# Altium integrated library WE-LQS_rev15b.intlib: 147 symbols (part 1 of 2)
Pins are listed as number, name and electrical type; pins without a type are passive.

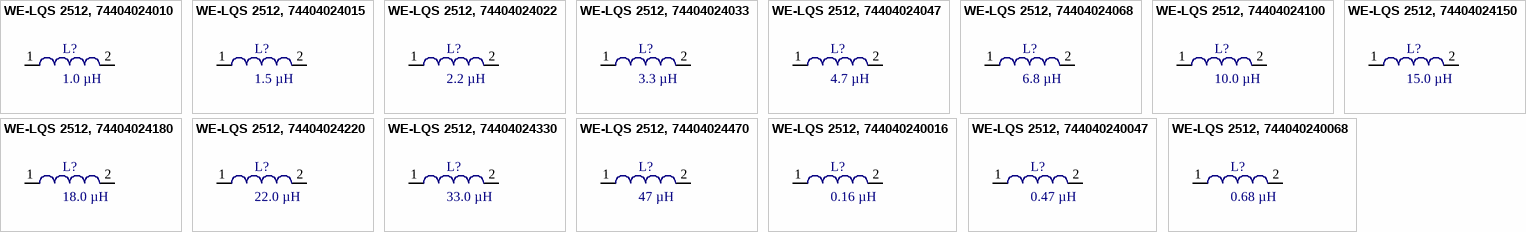
[diagram p0: symbols WE-LQS 2512, 74404024010 to WE-LQS 2512, 744040240068]

## WE-LQS 2512, 74404024010
designator L?, comment 1.0 µH
WE-LQS SMD Power Inductor, L=1.0 µH; partNo: 74404024010; Manufacturer: Wurth Elektronik; Inductance: 1.0 µH; ComponentLink1Description: Manufacturer; ComponentLink1URL: http://www.we-online.de; Created by: Karrer Zheng; Created Date: May 2014; ComponentLink2Description: Datasheet; ComponentLink2URL: http://katalog.we-online.de/pbs/datasheet/74404024010.pdf
footprint WE-LQS 2512 (SMD Power Inductor, 2-Leads, Body 2.5x2.0mm)
pins: 1, 2

## WE-LQS 2512, 74404024015
designator L?, comment 1.5 µH
WE-LQS SMD Power Inductor, L=1.5 µH; partNo: 74404024015; Manufacturer: Wurth Elektronik; Inductance: 1.5 µH; ComponentLink1Description: Manufacturer; ComponentLink1URL: http://www.we-online.de; Created by: Karrer Zheng; Created Date: May 2014; ComponentLink2Description: Datasheet; ComponentLink2URL: http://katalog.we-online.de/pbs/datasheet/74404024015.pdf
footprint WE-LQS 2512 (SMD Power Inductor, 2-Leads, Body 2.5x2.0mm)
pins: 1, 2

## WE-LQS 2512, 74404024022
designator L?, comment 2.2 µH
WE-LQS SMD Power Inductor, L=2.2 µH; partNo: 744040240022; Manufacturer: Wurth Elektronik; Inductance: 2.2 µH; ComponentLink1Description: Manufacturer; ComponentLink1URL: http://www.we-online.de; Created by: Karrer Zheng; Created Date: May 2014; ComponentLink2Description: Datasheet; ComponentLink2URL: http://katalog.we-online.de/pbs/datasheet/74404024022.pdf
footprint WE-LQS 2512 (SMD Power Inductor, 2-Leads, Body 2.5x2.0mm)
pins: 1, 2

## WE-LQS 2512, 74404024033
designator L?, comment 3.3 µH
WE-LQS SMD Power Inductor, L=3.3 µH; partNo: 74404024033; Manufacturer: Wurth Elektronik; Inductance: 3.3 µH; ComponentLink1Description: Manufacturer; ComponentLink1URL: http://www.we-online.de; Created by: Karrer Zheng; Created Date: May 2014; ComponentLink2Description: Datasheet; ComponentLink2URL: http://katalog.we-online.de/pbs/datasheet/74404024033.pdf
footprint WE-LQS 2512 (SMD Power Inductor, 2-Leads, Body 2.5x2.0mm)
pins: 1, 2

## WE-LQS 2512, 74404024047
designator L?, comment 4.7 µH
WE-LQS SMD Power Inductor, L=4.7 µH; partNo: 74404024047; Manufacturer: Wurth Elektronik; Inductance: 4.7 µH; ComponentLink1Description: Manufacturer; ComponentLink1URL: http://www.we-online.de; Created by: Karrer Zheng; Created Date: May 2014; ComponentLink2Description: Datasheet; ComponentLink2URL: http://katalog.we-online.de/pbs/datasheet/74404024047.pdf
footprint WE-LQS 2512 (SMD Power Inductor, 2-Leads, Body 2.5x2.0mm)
pins: 1, 2

## WE-LQS 2512, 74404024068
designator L?, comment 6.8 µH
WE-LQS SMD Power Inductor, L=6.8 µH; partNo: 74404024068; Manufacturer: Wurth Elektronik; Inductance: 6.8 µH; ComponentLink1Description: Manufacturer; ComponentLink1URL: http://www.we-online.de; Created by: Karrer Zheng; Created Date: May 2014; ComponentLink2Description: Datasheet; ComponentLink2URL: http://katalog.we-online.de/pbs/datasheet/74404024068.pdf
footprint WE-LQS 2512 (SMD Power Inductor, 2-Leads, Body 2.5x2.0mm)
pins: 1, 2

## WE-LQS 2512, 74404024100
designator L?, comment 10.0 µH
WE-LQS SMD Power Inductor, L=10.0 µH; partNo: 74404024100; Manufacturer: Wurth Elektronik; Inductance: 10.0 µH; ComponentLink1Description: Manufacturer; ComponentLink1URL: http://www.we-online.de; Created by: Karrer Zheng; Created Date: May 2014; ComponentLink2Description: Datasheet; ComponentLink2URL: http://katalog.we-online.de/pbs/datasheet/74404024100.pdf
footprint WE-LQS 2512 (SMD Power Inductor, 2-Leads, Body 2.5x2.0mm)
pins: 1, 2

## WE-LQS 2512, 74404024150
designator L?, comment 15.0 µH
WE-LQS SMD Power Inductor, L=15.0 µH; partNo: 74404024150; Manufacturer: Wurth Elektronik; Inductance: 15.0 µH; ComponentLink1Description: Manufacturer; ComponentLink1URL: http://www.we-online.de; Created by: Karrer Zheng; Created Date: May 2014; ComponentLink2Description: Datasheet; ComponentLink2URL: http://katalog.we-online.de/pbs/datasheet/74404024150.pdf
footprint WE-LQS 2512 (SMD Power Inductor, 2-Leads, Body 2.5x2.0mm)
pins: 1, 2

## WE-LQS 2512, 74404024180
designator L?, comment 18.0 µH
WE-LQS SMD Power Inductor, L=18.0 µH; partNo: 74404024180; Manufacturer: Wurth Elektronik; Inductance: 18.0 µH; ComponentLink1Description: Manufacturer; ComponentLink1URL: http://www.we-online.de; Created by: Karrer Zheng; Created Date: May 2014; ComponentLink2Description: Datasheet; ComponentLink2URL: http://katalog.we-online.de/pbs/datasheet/74404024180.pdf
footprint WE-LQS 2512 (SMD Power Inductor, 2-Leads, Body 2.5x2.0mm)
pins: 1, 2

## WE-LQS 2512, 74404024220
designator L?, comment 22.0 µH
WE-LQS SMD Power Inductor, L=22.0 µH; partNo: 74404024220; Manufacturer: Wurth Elektronik; Inductance: 22.0 µH; ComponentLink1Description: Manufacturer; ComponentLink1URL: http://www.we-online.de; Created by: Karrer Zheng; Created Date: May 2014; ComponentLink2Description: Datasheet; ComponentLink2URL: http://katalog.we-online.de/pbs/datasheet/74404024220.pdf
footprint WE-LQS 2512 (SMD Power Inductor, 2-Leads, Body 2.5x2.0mm)
pins: 1, 2

## WE-LQS 2512, 74404024330
designator L?, comment 33.0 µH
WE-LQS SMD Power Inductor, L=33.0 µH; partNo: 74404024330; Manufacturer: Wurth Elektronik; Inductance: 33.0 µH; ComponentLink1Description: Manufacturer; ComponentLink1URL: http://www.we-online.de; Created by: Karrer Zheng; Created Date: May 2014; ComponentLink2Description: Datasheet; ComponentLink2URL: http://katalog.we-online.de/pbs/datasheet/74404024330.pdf
footprint WE-LQS 2512 (SMD Power Inductor, 2-Leads, Body 2.5x2.0mm)
pins: 1, 2

## WE-LQS 2512, 74404024470
designator L?, comment 47 µH
WE-LQS SMD Power Inductor, L=47 µH; partNo: 74404024470; Manufacturer: Wurth Elektronik; Inductance: 47 µH; ComponentLink1Description: Manufacturer; ComponentLink1URL: http://www.we-online.de; Created by: Baojun Chen; Created Date: Aug. 2015; ComponentLink2Description: Datasheet; ComponentLink2URL: http://katalog.we-online.de/pbs/datasheet/74404024470.pdf
footprint WE-LQS 2512 (SMD Power Inductor, 2-Leads, Body 2.5x2.0mm)
pins: 1, 2

## WE-LQS 2512, 744040240016
designator L?, comment 0.16 µH
WE-LQS SMD Power Inductor, L=0.16 µH; partNo: 744040240016; Manufacturer: Wurth Elektronik; Inductance: 0.16 µH; ComponentLink1Description: Manufacturer; ComponentLink1URL: http://www.we-online.de; Created by: Baojun Chen; Created Date: Aug. 2015; ComponentLink2Description: Datasheet; ComponentLink2URL: http://katalog.we-online.de/pbs/datasheet/744040240016.pdf
footprint WE-LQS 2512 (SMD Power Inductor, 2-Leads, Body 2.5x2.0mm)
pins: 1, 2

## WE-LQS 2512, 744040240047
designator L?, comment 0.47 µH
WE-LQS SMD Power Inductor, L=0.47 µH; partNo: 744040240047; Manufacturer: Wurth Elektronik; Inductance: 0.47 µH; ComponentLink1Description: Manufacturer; ComponentLink1URL: http://www.we-online.de; Created by: Karrer Zheng; Created Date: May 2014; ComponentLink2Description: Datasheet; ComponentLink2URL: http://katalog.we-online.de/pbs/datasheet/744040240047.pdf
footprint WE-LQS 2512 (SMD Power Inductor, 2-Leads, Body 2.5x2.0mm)
pins: 1, 2

## WE-LQS 2512, 744040240068
designator L?, comment 0.68 µH
WE-LQS SMD Power Inductor, L=0.68 µH; partNo: 744040240068; Manufacturer: Wurth Elektronik; Inductance: 0.68 µH; ComponentLink1Description: Manufacturer; ComponentLink1URL: http://www.we-online.de; Created by: Karrer Zheng; Created Date: May 2014; ComponentLink2Description: Datasheet; ComponentLink2URL: http://katalog.we-online.de/pbs/datasheet/744040240068.pdf
footprint WE-LQS 2512 (SMD Power Inductor, 2-Leads, Body 2.5x2.0mm)
pins: 1, 2


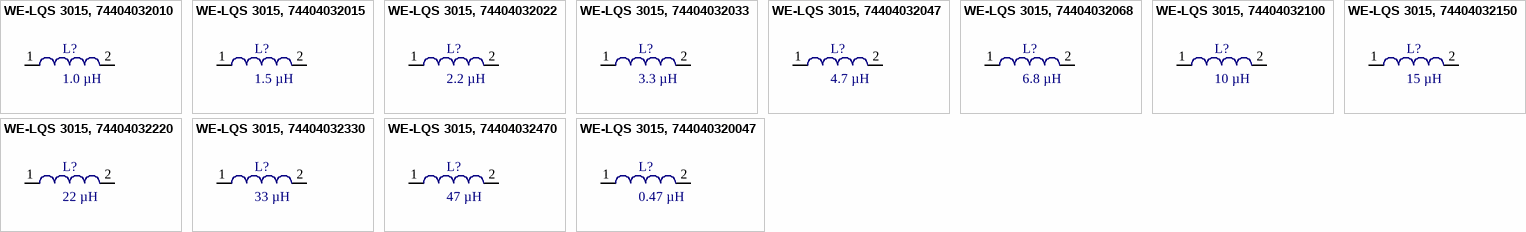
[diagram p1: symbols WE-LQS 3015, 74404032010 to WE-LQS 3015, 744040320047]

## WE-LQS 3015, 74404032010
designator L?, comment 1.0 µH
WE-LQS SMD Power Inductor, L=1.0 µH; partNo: 74404032010; Manufacturer: Wurth Elektronik; Inductance: 1.0 µH; ComponentLink1Description: Manufacturer; ComponentLink1URL: http://www.we-online.de; Created by: Karrer Zheng; Created Date: May 2014; ComponentLink2Description: Datasheet; ComponentLink2URL: http://katalog.we-online.de/pbs/datasheet/74404032010.pdf
footprint WE-LQS 3015 (SMD Power Inductor, 2-Leads, Body 3.0x3.0mm)
pins: 1, 2

## WE-LQS 3015, 74404032015
designator L?, comment 1.5 µH
WE-LQS SMD Power Inductor, L=1.5 µH; partNo: 74404032015; Manufacturer: Wurth Elektronik; Inductance: 1.5 µH; ComponentLink1Description: Manufacturer; ComponentLink1URL: http://www.we-online.de; Created by: Karrer Zheng; Created Date: May 2014; ComponentLink2Description: Datasheet; ComponentLink2URL: http://katalog.we-online.de/pbs/datasheet/74404032015.pdf
footprint WE-LQS 3015 (SMD Power Inductor, 2-Leads, Body 3.0x3.0mm)
pins: 1, 2

## WE-LQS 3015, 74404032022
designator L?, comment 2.2 µH
WE-LQS SMD Power Inductor, L=2.2 µH; partNo: 74404032022; Manufacturer: Wurth Elektronik; Inductance: 2.2 µH; ComponentLink1Description: Manufacturer; ComponentLink1URL: http://www.we-online.de; Created by: Karrer Zheng; Created Date: May 2014; ComponentLink2Description: Datasheet; ComponentLink2URL: http://katalog.we-online.de/pbs/datasheet/74404032022.pdf
footprint WE-LQS 3015 (SMD Power Inductor, 2-Leads, Body 3.0x3.0mm)
pins: 1, 2

## WE-LQS 3015, 74404032033
designator L?, comment 3.3 µH
WE-LQS SMD Power Inductor, L=3.3 µH; partNo: 74404032033; Manufacturer: Wurth Elektronik; Inductance: 3.3 µH; ComponentLink1Description: Manufacturer; ComponentLink1URL: http://www.we-online.de; Created by: Karrer Zheng; Created Date: May 2014; ComponentLink2Description: Datasheet; ComponentLink2URL: http://katalog.we-online.de/pbs/datasheet/74404032033.pdf
footprint WE-LQS 3015 (SMD Power Inductor, 2-Leads, Body 3.0x3.0mm)
pins: 1, 2

## WE-LQS 3015, 74404032047
designator L?, comment 4.7 µH
WE-LQS SMD Power Inductor, L=4.7 µH; partNo: 74404032047; Manufacturer: Wurth Elektronik; Inductance: 4.7 µH; ComponentLink1Description: Manufacturer; ComponentLink1URL: http://www.we-online.de; Created by: Karrer Zheng; Created Date: May 2014; ComponentLink2Description: Datasheet; ComponentLink2URL: http://katalog.we-online.de/pbs/datasheet/74404032047.pdf
footprint WE-LQS 3015 (SMD Power Inductor, 2-Leads, Body 3.0x3.0mm)
pins: 1, 2

## WE-LQS 3015, 74404032068
designator L?, comment 6.8 µH
WE-LQS SMD Power Inductor, L=6.8 µH; partNo: 74404032068; Manufacturer: Wurth Elektronik; Inductance: 6.8 µH; ComponentLink1Description: Manufacturer; ComponentLink1URL: http://www.we-online.de; Created by: Karrer Zheng; Created Date: May 2014; ComponentLink2Description: Datasheet; ComponentLink2URL: http://katalog.we-online.de/pbs/datasheet/74404032068.pdf
footprint WE-LQS 3015 (SMD Power Inductor, 2-Leads, Body 3.0x3.0mm)
pins: 1, 2

## WE-LQS 3015, 74404032100
designator L?, comment 10 µH
WE-LQS SMD Power Inductor, L=10 µH; partNo: 74404032100; Manufacturer: Wurth Elektronik; Inductance: 10 µH; ComponentLink1Description: Manufacturer; ComponentLink1URL: http://www.we-online.de; Created by: Karrer Zheng; Created Date: May 2014; ComponentLink2Description: Datasheet; ComponentLink2URL: http://katalog.we-online.de/pbs/datasheet/74404032100.pdf
footprint WE-LQS 3015 (SMD Power Inductor, 2-Leads, Body 3.0x3.0mm)
pins: 1, 2

## WE-LQS 3015, 74404032150
designator L?, comment 15 µH
WE-LQS SMD Power Inductor, L=15 µH; partNo: 74404032150; Manufacturer: Wurth Elektronik; Inductance: 15 µH; ComponentLink1Description: Manufacturer; ComponentLink1URL: http://www.we-online.de; Created by: Karrer Zheng; Created Date: May 2014; ComponentLink2Description: Datasheet; ComponentLink2URL: http://katalog.we-online.de/pbs/datasheet/74404032150.pdf
footprint WE-LQS 3015 (SMD Power Inductor, 2-Leads, Body 3.0x3.0mm)
pins: 1, 2

## WE-LQS 3015, 74404032220
designator L?, comment 22 µH
WE-LQS SMD Power Inductor, L=22 µH; partNo: 74404032220; Manufacturer: Wurth Elektronik; Inductance: 22 µH; ComponentLink1Description: Manufacturer; ComponentLink1URL: http://www.we-online.de; Created by: Karrer Zheng; Created Date: May 2014; ComponentLink2Description: Datasheet; ComponentLink2URL: http://katalog.we-online.de/pbs/datasheet/74404032220.pdf
footprint WE-LQS 3015 (SMD Power Inductor, 2-Leads, Body 3.0x3.0mm)
pins: 1, 2

## WE-LQS 3015, 74404032330
designator L?, comment 33 µH
WE-LQS SMD Power Inductor, L=33 µH; partNo: 74404032330; Manufacturer: Wurth Elektronik; Inductance: 33 µH; ComponentLink1Description: Manufacturer; ComponentLink1URL: http://www.we-online.de; Created by: Karrer Zheng; Created Date: May 2014; ComponentLink2Description: Datasheet; ComponentLink2URL: http://katalog.we-online.de/pbs/datasheet/74404032330.pdf
footprint WE-LQS 3015 (SMD Power Inductor, 2-Leads, Body 3.0x3.0mm)
pins: 1, 2

## WE-LQS 3015, 74404032470
designator L?, comment 47 µH
WE-LQS SMD Power Inductor, L=47 µH; partNo: 74404032470; Manufacturer: Wurth Elektronik; Inductance: 47 µH; ComponentLink1Description: Manufacturer; ComponentLink1URL: http://www.we-online.de; Created by: Karrer Zheng; Created Date: May 2014; ComponentLink2Description: Datasheet; ComponentLink2URL: http://katalog.we-online.de/pbs/datasheet/74404032470.pdf
footprint WE-LQS 3015 (SMD Power Inductor, 2-Leads, Body 3.0x3.0mm)
pins: 1, 2

## WE-LQS 3015, 744040320047
designator L?, comment 0.47 µH
WE-LQS SMD Power Inductor, L=0.47; partNo: 744040320047; Manufacturer: Wurth Elektronik; Inductance: 0.47 µH; ComponentLink1Description: Manufacturer; ComponentLink1URL: http://www.we-online.de; Created by: Karrer Zheng; Created Date: May 2014; ComponentLink2Description: Datasheet; ComponentLink2URL: http://katalog.we-online.de/pbs/datasheet/744040320047.pdf
footprint WE-LQS 3015 (SMD Power Inductor, 2-Leads, Body 3.0x3.0mm)
pins: 1, 2


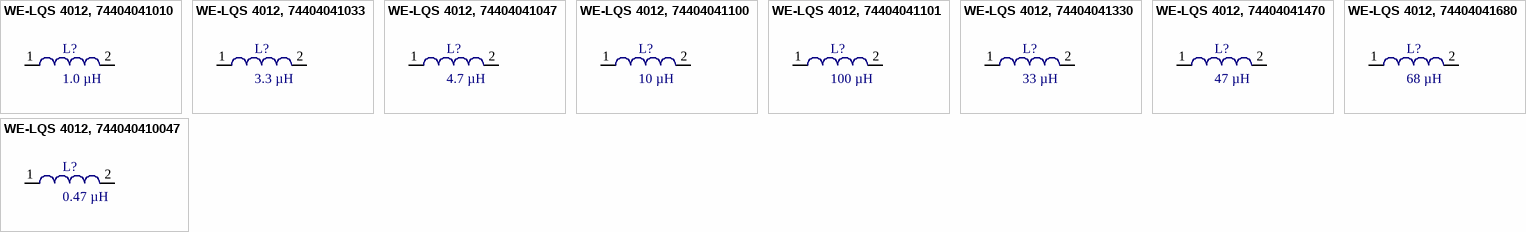
[diagram p2: symbols WE-LQS 4012, 74404041010 to WE-LQS 4012, 744040410047]

## WE-LQS 4012, 74404041010
designator L?, comment 1.0 µH
WE-LQS SMD Power Inductor, L=1.0 µH; partNo: 74404041010; Manufacturer: Wurth Elektronik; Inductance: 1.0 µH; ComponentLink1Description: Manufacturer; ComponentLink1URL: http://www.we-online.de; Created by: Baojun Chen; Created Date: Aug. 2015; ComponentLink2Description: Datasheet; ComponentLink2URL: http://katalog.we-online.de/pbs/datasheet/74404041010.pdf
footprint WE-LQS 4012 (SMD Power Inductor, 2-Leads, Body 4.0x4.0mm)
pins: 1, 2

## WE-LQS 4012, 74404041033
designator L?, comment 3.3 µH
WE-LQS SMD Power Inductor, L=3.3 µH; partNo: 74404041033; Manufacturer: Wurth Elektronik; Inductance: 3.3 µH; ComponentLink1Description: Manufacturer; ComponentLink1URL: http://www.we-online.de; Created by: Baojun Chen; Created Date: Aug. 2015; ComponentLink2Description: Datasheet; ComponentLink2URL: http://katalog.we-online.de/pbs/datasheet/74404041033.pdf
footprint WE-LQS 4012 (SMD Power Inductor, 2-Leads, Body 4.0x4.0mm)
pins: 1, 2

## WE-LQS 4012, 74404041047
designator L?, comment 4.7 µH
WE-LQS SMD Power Inductor, L=4.7 µH; partNo: 74404041047; Manufacturer: Wurth Elektronik; Inductance: 4.7 µH; ComponentLink1Description: Manufacturer; ComponentLink1URL: http://www.we-online.de; Created by: Baojun Chen; Created Date: Aug. 2015; ComponentLink2Description: Datasheet; ComponentLink2URL: http://katalog.we-online.de/pbs/datasheet/74404041047.pdf
footprint WE-LQS 4012 (SMD Power Inductor, 2-Leads, Body 4.0x4.0mm)
pins: 1, 2

## WE-LQS 4012, 74404041100
designator L?, comment 10 µH
WE-LQS SMD Power Inductor, L=10 µH; partNo: 74404041100; Manufacturer: Wurth Elektronik; Inductance: 10 µH; ComponentLink1Description: Manufacturer; ComponentLink1URL: http://www.we-online.de; Created by: Baojun Chen; Created Date: Aug. 2015; ComponentLink2Description: Datasheet; ComponentLink2URL: http://katalog.we-online.de/pbs/datasheet/74404041100.pdf
footprint WE-LQS 4012 (SMD Power Inductor, 2-Leads, Body 4.0x4.0mm)
pins: 1, 2

## WE-LQS 4012, 74404041101
designator L?, comment 100 µH
WE-LQS SMD Power Inductor, L=100 µH; partNo: 74404041101; Manufacturer: Wurth Elektronik; Inductance: 100 µH; ComponentLink1Description: Manufacturer; ComponentLink1URL: http://www.we-online.de; Created by: Baojun Chen; Created Date: Aug. 2015; ComponentLink2Description: Datasheet; ComponentLink2URL: http://katalog.we-online.de/pbs/datasheet/74404041101.pdf
footprint WE-LQS 4012 (SMD Power Inductor, 2-Leads, Body 4.0x4.0mm)
pins: 1, 2

## WE-LQS 4012, 74404041330
designator L?, comment 33 µH
WE-LQS SMD Power Inductor, L=33 µH; partNo: 74404041330; Manufacturer: Wurth Elektronik; Inductance: 33 µH; ComponentLink1Description: Manufacturer; ComponentLink1URL: http://www.we-online.de; Created by: Baojun Chen; Created Date: Aug. 2015; ComponentLink2Description: Datasheet; ComponentLink2URL: http://katalog.we-online.de/pbs/datasheet/74404041330.pdf
footprint WE-LQS 4012 (SMD Power Inductor, 2-Leads, Body 4.0x4.0mm)
pins: 1, 2

## WE-LQS 4012, 74404041470
designator L?, comment 47 µH
WE-LQS SMD Power Inductor, L=47 µH; partNo: 74404041470; Manufacturer: Wurth Elektronik; Inductance: 47 µH; ComponentLink1Description: Manufacturer; ComponentLink1URL: http://www.we-online.de; Created by: Baojun Chen; Created Date: Aug. 2015; ComponentLink2Description: Datasheet; ComponentLink2URL: http://katalog.we-online.de/pbs/datasheet/74404041470.pdf
footprint WE-LQS 4012 (SMD Power Inductor, 2-Leads, Body 4.0x4.0mm)
pins: 1, 2

## WE-LQS 4012, 74404041680
designator L?, comment 68 µH
WE-LQS SMD Power Inductor, L=68 µH; partNo: 74404041680; Manufacturer: Wurth Elektronik; Inductance: 68 µH; ComponentLink1Description: Manufacturer; ComponentLink1URL: http://www.we-online.de; Created by: Baojun Chen; Created Date: Aug. 2015; ComponentLink2Description: Datasheet; ComponentLink2URL: http://katalog.we-online.de/pbs/datasheet/74404041680.pdf
footprint WE-LQS 4012 (SMD Power Inductor, 2-Leads, Body 4.0x4.0mm)
pins: 1, 2

## WE-LQS 4012, 744040410047
designator L?, comment 0.47 µH
WE-LQS SMD Power Inductor, L=0.47 µH; partNo: 744040410047; Manufacturer: Wurth Elektronik; Inductance: 0.47 µH; ComponentLink1Description: Manufacturer; ComponentLink1URL: http://www.we-online.de; Created by: Baojun Chen; Created Date: Aug. 2015; ComponentLink2Description: Datasheet; ComponentLink2URL: http://katalog.we-online.de/pbs/datasheet/744040410047.pdf
footprint WE-LQS 4012 (SMD Power Inductor, 2-Leads, Body 4.0x4.0mm)
pins: 1, 2


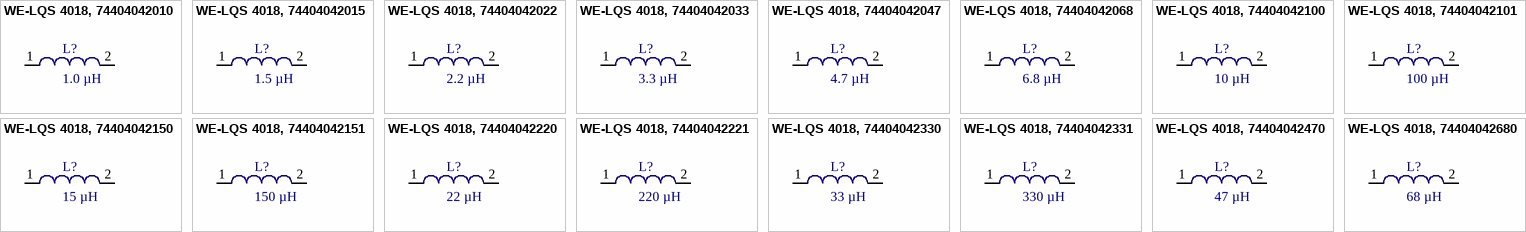
[diagram p3: symbols WE-LQS 4018, 74404042010 to WE-LQS 4018, 74404042680]

## WE-LQS 4018, 74404042010
designator L?, comment 1.0 µH
WE-LQS SMD Power Inductor, L=1.0 µH; partNo: 74404042010; Manufacturer: Wurth Elektronik; Inductance: 1.0 µH; ComponentLink1Description: Manufacturer; ComponentLink1URL: http://www.we-online.de; Created by: Karrer Zheng; Created Date: May 2014; ComponentLink2Description: Datasheet; ComponentLink2URL: http://katalog.we-online.de/pbs/datasheet/74404042010.pdf
footprint WE-LQS 4018 (SMD Power Inductor, 2-Leads, Body 4.0x4.0mm)
pins: 1, 2

## WE-LQS 4018, 74404042015
designator L?, comment 1.5 µH
WE-LQS SMD Power Inductor, L=1.5 µH; partNo: 74404042015; Manufacturer: Wurth Elektronik; Inductance: 1.5 µH; ComponentLink1Description: Manufacturer; ComponentLink1URL: http://www.we-online.de; Created by: Karrer Zheng; Created Date: May 2014; ComponentLink2Description: Datasheet; ComponentLink2URL: http://katalog.we-online.de/pbs/datasheet/74404042015.pdf
footprint WE-LQS 4018 (SMD Power Inductor, 2-Leads, Body 4.0x4.0mm)
pins: 1, 2

## WE-LQS 4018, 74404042022
designator L?, comment 2.2 µH
WE-LQS SMD Power Inductor, L=2.2 µH; partNo: 74404042022; Manufacturer: Wurth Elektronik; Inductance: 2.2 µH; ComponentLink1Description: Manufacturer; ComponentLink1URL: http://www.we-online.de; Created by: Karrer Zheng; Created Date: May 2014; ComponentLink2Description: Datasheet; ComponentLink2URL: http://katalog.we-online.de/pbs/datasheet/74404042022.pdf
footprint WE-LQS 4018 (SMD Power Inductor, 2-Leads, Body 4.0x4.0mm)
pins: 1, 2

## WE-LQS 4018, 74404042033
designator L?, comment 3.3 µH
WE-LQS SMD Power Inductor, L=3.3 µH; partNo: 74404042033; Manufacturer: Wurth Elektronik; Inductance: 3.3 µH; ComponentLink1Description: Manufacturer; ComponentLink1URL: http://www.we-online.de; Created by: Karrer Zheng; Created Date: May 2014; ComponentLink2Description: Datasheet; ComponentLink2URL: http://katalog.we-online.de/pbs/datasheet/74404042033.pdf
footprint WE-LQS 4018 (SMD Power Inductor, 2-Leads, Body 4.0x4.0mm)
pins: 1, 2

## WE-LQS 4018, 74404042047
designator L?, comment 4.7 µH
WE-LQS SMD Power Inductor, L=4.7 µH; partNo: 74404042047; Manufacturer: Wurth Elektronik; Inductance: 4.7 µH; ComponentLink1Description: Manufacturer; ComponentLink1URL: http://www.we-online.de; Created by: Karrer Zheng; Created Date: May 2014; ComponentLink2Description: Datasheet; ComponentLink2URL: http://katalog.we-online.de/pbs/datasheet/74404042047.pdf
footprint WE-LQS 4018 (SMD Power Inductor, 2-Leads, Body 4.0x4.0mm)
pins: 1, 2

## WE-LQS 4018, 74404042068
designator L?, comment 6.8 µH
WE-LQS SMD Power Inductor, L=6.8 µH; partNo: 74404042068; Manufacturer: Wurth Elektronik; Inductance: 6.8 µH; ComponentLink1Description: Manufacturer; ComponentLink1URL: http://www.we-online.de; Created by: Karrer Zheng; Created Date: May 2014; ComponentLink2Description: Datasheet; ComponentLink2URL: http://katalog.we-online.de/pbs/datasheet/74404042068.pdf
footprint WE-LQS 4018 (SMD Power Inductor, 2-Leads, Body 4.0x4.0mm)
pins: 1, 2

## WE-LQS 4018, 74404042100
designator L?, comment 10 µH
WE-LQS SMD Power Inductor, L=10 µH; partNo: 74404042100; Manufacturer: Wurth Elektronik; Inductance: 10 µH; ComponentLink1Description: Manufacturer; ComponentLink1URL: http://www.we-online.de; Created by: Karrer Zheng; Created Date: May 2014; ComponentLink2Description: Datasheet; ComponentLink2URL: http://katalog.we-online.de/pbs/datasheet/74404042100.pdf
footprint WE-LQS 4018 (SMD Power Inductor, 2-Leads, Body 4.0x4.0mm)
pins: 1, 2

## WE-LQS 4018, 74404042101
designator L?, comment 100 µH
WE-LQS SMD Power Inductor, L=100 µH; partNo: 74404042101; Manufacturer: Wurth Elektronik; Inductance: 100 µH; ComponentLink1Description: Manufacturer; ComponentLink1URL: http://www.we-online.de; Created by: Baojun Chen; Created Date: Aug. 2015; ComponentLink2Description: Datasheet; ComponentLink2URL: http://katalog.we-online.de/pbs/datasheet/74404042101.pdf
footprint WE-LQS 4018 (SMD Power Inductor, 2-Leads, Body 4.0x4.0mm)
pins: 1, 2

## WE-LQS 4018, 74404042150
designator L?, comment 15 µH
WE-LQS SMD Power Inductor, L=15 µH; partNo: 74404042150; Manufacturer: Wurth Elektronik; Inductance: 15 µH; ComponentLink1Description: Manufacturer; ComponentLink1URL: http://www.we-online.de; Created by: Karrer Zheng; Created Date: May 2014; ComponentLink2Description: Datasheet; ComponentLink2URL: http://katalog.we-online.de/pbs/datasheet/74404042150.pdf
footprint WE-LQS 4018 (SMD Power Inductor, 2-Leads, Body 4.0x4.0mm)
pins: 1, 2

## WE-LQS 4018, 74404042151
designator L?, comment 150 µH
WE-LQS SMD Power Inductor, L=150 µH; partNo: 74404042151; Manufacturer: Wurth Elektronik; Inductance: 150 µH; ComponentLink1Description: Manufacturer; ComponentLink1URL: http://www.we-online.de; Created by: Baojun Chen; Created Date: Aug. 2015; ComponentLink2Description: Datasheet; ComponentLink2URL: http://katalog.we-online.de/pbs/datasheet/74404042151.pdf
footprint WE-LQS 4018 (SMD Power Inductor, 2-Leads, Body 4.0x4.0mm)
pins: 1, 2

## WE-LQS 4018, 74404042220
designator L?, comment 22 µH
WE-LQS SMD Power Inductor, L=22 µH; partNo: 74404042220; Manufacturer: Wurth Elektronik; Inductance: 22 µH; ComponentLink1Description: Manufacturer; ComponentLink1URL: http://www.we-online.de; Created by: Karrer Zheng; Created Date: May 2014; ComponentLink2Description: Datasheet; ComponentLink2URL: http://katalog.we-online.de/pbs/datasheet/74404042220.pdf
footprint WE-LQS 4018 (SMD Power Inductor, 2-Leads, Body 4.0x4.0mm)
pins: 1, 2

## WE-LQS 4018, 74404042221
designator L?, comment 220 µH
WE-LQS SMD Power Inductor, L=220 µH; partNo: 74404042221; Manufacturer: Wurth Elektronik; Inductance: 220 µH; ComponentLink1Description: Manufacturer; ComponentLink1URL: http://www.we-online.de; Created by: Baojun Chen; Created Date: Aug. 2015; ComponentLink2Description: Datasheet; ComponentLink2URL: http://katalog.we-online.de/pbs/datasheet/74404042221.pdf
footprint WE-LQS 4018 (SMD Power Inductor, 2-Leads, Body 4.0x4.0mm)
pins: 1, 2

## WE-LQS 4018, 74404042330
designator L?, comment 33 µH
WE-LQS SMD Power Inductor, L=33 µH; partNo: 74404042330; Manufacturer: Wurth Elektronik; Inductance: 33 µH; ComponentLink1Description: Manufacturer; ComponentLink1URL: http://www.we-online.de; Created by: Karrer Zheng; Created Date: May 2014; ComponentLink2Description: Datasheet; ComponentLink2URL: http://katalog.we-online.de/pbs/datasheet/74404042330.pdf
footprint WE-LQS 4018 (SMD Power Inductor, 2-Leads, Body 4.0x4.0mm)
pins: 1, 2

## WE-LQS 4018, 74404042331
designator L?, comment 330 µH
WE-LQS SMD Power Inductor, L=330 µH; partNo: 74404042331; Manufacturer: Wurth Elektronik; Inductance: 330 µH; ComponentLink1Description: Manufacturer; ComponentLink1URL: http://www.we-online.de; Created by: Baojun Chen; Created Date: Aug. 2015; ComponentLink2Description: Datasheet; ComponentLink2URL: http://katalog.we-online.de/pbs/datasheet/74404042331.pdf
footprint WE-LQS 4018 (SMD Power Inductor, 2-Leads, Body 4.0x4.0mm)
pins: 1, 2

## WE-LQS 4018, 74404042470
designator L?, comment 47 µH
WE-LQS SMD Power Inductor, L=47 µH; partNo: 74404042470; Manufacturer: Wurth Elektronik; Inductance: 47 µH; ComponentLink1Description: Manufacturer; ComponentLink1URL: http://www.we-online.de; Created by: Karrer Zheng; Created Date: May 2014; ComponentLink2Description: Datasheet; ComponentLink2URL: http://katalog.we-online.de/pbs/datasheet/74404042470.pdf
footprint WE-LQS 4018 (SMD Power Inductor, 2-Leads, Body 4.0x4.0mm)
pins: 1, 2

## WE-LQS 4018, 74404042680
designator L?, comment 68 µH
WE-LQS SMD Power Inductor, L=68 µH; partNo: 74404042680; Manufacturer: Wurth Elektronik; Inductance: 68 µH; ComponentLink1Description: Manufacturer; ComponentLink1URL: http://www.we-online.de; Created by: Baojun Chen; Created Date: Aug. 2015; ComponentLink2Description: Datasheet; ComponentLink2URL: http://katalog.we-online.de/pbs/datasheet/74404042680.pdf
footprint WE-LQS 4018 (SMD Power Inductor, 2-Leads, Body 4.0x4.0mm)
pins: 1, 2


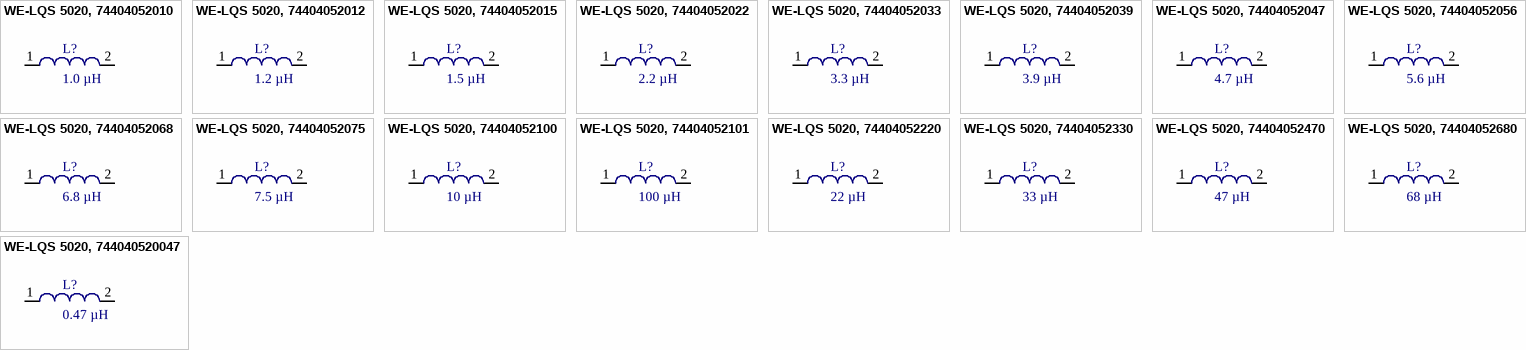
[diagram p4: symbols WE-LQS 5020, 74404052010 to WE-LQS 5020, 744040520047]

## WE-LQS 5020, 74404052010
designator L?, comment 1.0 µH
WE-LQS SMD Power Inductor, L=1.0 µH; partNo: 74404052010; Manufacturer: Wurth Elektronik; Inductance: 1.0 µH; ComponentLink1Description: Manufacturer; ComponentLink1URL: http://www.we-online.de; Created by: Baojun Chen; Created Date: Aug. 2015; ComponentLink2Description: Datasheet; ComponentLink2URL: http://katalog.we-online.de/pbs/datasheet/74404052010.pdf
footprint WE-LQS 5020 (SMD Power Inductor, 2-Leads, Body 5.0x5.0mm)
pins: 1, 2

## WE-LQS 5020, 74404052012
designator L?, comment 1.2 µH
WE-LQS SMD Power Inductor, L=1.2 µH; partNo: 74404052012; Manufacturer: Wurth Elektronik; Inductance: 1.2 µH; ComponentLink1Description: Manufacturer; ComponentLink1URL: http://www.we-online.de; Created by: Baojun Chen; Created Date: Aug. 2015; ComponentLink2Description: Datasheet; ComponentLink2URL: http://katalog.we-online.de/pbs/datasheet/74404052012.pdf
footprint WE-LQS 5020 (SMD Power Inductor, 2-Leads, Body 5.0x5.0mm)
pins: 1, 2

## WE-LQS 5020, 74404052015
designator L?, comment 1.5 µH
WE-LQS SMD Power Inductor, L=1.5 µH; partNo: 74404052015; Manufacturer: Wurth Elektronik; Inductance: 1.5 µH; ComponentLink1Description: Manufacturer; ComponentLink1URL: http://www.we-online.de; Created by: Baojun Chen; Created Date: Aug. 2015; ComponentLink2Description: Datasheet; ComponentLink2URL: http://katalog.we-online.de/pbs/datasheet/74404052015.pdf
footprint WE-LQS 5020 (SMD Power Inductor, 2-Leads, Body 5.0x5.0mm)
pins: 1, 2

## WE-LQS 5020, 74404052022
designator L?, comment 2.2 µH
WE-LQS SMD Power Inductor, L=2.2 µH; partNo: 74404052022; Manufacturer: Wurth Elektronik; Inductance: 2.2 µH; ComponentLink1Description: Manufacturer; ComponentLink1URL: http://www.we-online.de; Created by: Baojun Chen; Created Date: Aug. 2015; ComponentLink2Description: Datasheet; ComponentLink2URL: http://katalog.we-online.de/pbs/datasheet/74404052022.pdf
footprint WE-LQS 5020 (SMD Power Inductor, 2-Leads, Body 5.0x5.0mm)
pins: 1, 2

## WE-LQS 5020, 74404052033
designator L?, comment 3.3 µH
WE-LQS SMD Power Inductor, L=3.3 µH; partNo: 74404052033; Manufacturer: Wurth Elektronik; Inductance: 3.3 µH; ComponentLink1Description: Manufacturer; ComponentLink1URL: http://www.we-online.de; Created by: Baojun Chen; Created Date: Aug. 2015; ComponentLink2Description: Datasheet; ComponentLink2URL: http://katalog.we-online.de/pbs/datasheet/74404052033.pdf
footprint WE-LQS 5020 (SMD Power Inductor, 2-Leads, Body 5.0x5.0mm)
pins: 1, 2

## WE-LQS 5020, 74404052039
designator L?, comment 3.9 µH
WE-LQS SMD Power Inductor, L=3.9 µH; partNo: 74404052039; Manufacturer: Wurth Elektronik; Inductance: 3.9 µH; ComponentLink1Description: Manufacturer; ComponentLink1URL: http://www.we-online.de; Created by: Baojun Chen; Created Date: Aug. 2015; ComponentLink2Description: Datasheet; ComponentLink2URL: http://katalog.we-online.de/pbs/datasheet/74404052039.pdf
footprint WE-LQS 5020 (SMD Power Inductor, 2-Leads, Body 5.0x5.0mm)
pins: 1, 2

## WE-LQS 5020, 74404052047
designator L?, comment 4.7 µH
WE-LQS SMD Power Inductor, L=4.7 µH; partNo: 74404052047; Manufacturer: Wurth Elektronik; Inductance: 4.7 µH; ComponentLink1Description: Manufacturer; ComponentLink1URL: http://www.we-online.de; Created by: Baojun Chen; Created Date: Aug. 2015; ComponentLink2Description: Datasheet; ComponentLink2URL: http://katalog.we-online.de/pbs/datasheet/74404052047.pdf
footprint WE-LQS 5020 (SMD Power Inductor, 2-Leads, Body 5.0x5.0mm)
pins: 1, 2

## WE-LQS 5020, 74404052056
designator L?, comment 5.6 µH
WE-LQS SMD Power Inductor, L=5.6 µH; partNo: 74404052056; Manufacturer: Wurth Elektronik; Inductance: 5.6 µH; ComponentLink1Description: Manufacturer; ComponentLink1URL: http://www.we-online.de; Created by: Baojun Chen; Created Date: Aug. 2015; ComponentLink2Description: Datasheet; ComponentLink2URL: http://katalog.we-online.de/pbs/datasheet/74404052056.pdf
footprint WE-LQS 5020 (SMD Power Inductor, 2-Leads, Body 5.0x5.0mm)
pins: 1, 2

## WE-LQS 5020, 74404052068
designator L?, comment 6.8 µH
WE-LQS SMD Power Inductor, L=6.8 µH; partNo: 74404052068; Manufacturer: Wurth Elektronik; Inductance: 6.8 µH; ComponentLink1Description: Manufacturer; ComponentLink1URL: http://www.we-online.de; Created by: Baojun Chen; Created Date: Aug. 2015; ComponentLink2Description: Datasheet; ComponentLink2URL: http://katalog.we-online.de/pbs/datasheet/74404052068.pdf
footprint WE-LQS 5020 (SMD Power Inductor, 2-Leads, Body 5.0x5.0mm)
pins: 1, 2

## WE-LQS 5020, 74404052075
designator L?, comment 7.5 µH
WE-LQS SMD Power Inductor, L=7.5 µH; partNo: 74404052075; Manufacturer: Wurth Elektronik; Inductance: 7.5 µH; ComponentLink1Description: Manufacturer; ComponentLink1URL: http://www.we-online.de; Created by: Baojun Chen; Created Date: Aug. 2015; ComponentLink2Description: Datasheet; ComponentLink2URL: http://katalog.we-online.de/pbs/datasheet/74404052075.pdf
footprint WE-LQS 5020 (SMD Power Inductor, 2-Leads, Body 5.0x5.0mm)
pins: 1, 2

## WE-LQS 5020, 74404052100
designator L?, comment 10 µH
WE-LQS SMD Power Inductor, L=10 µH; partNo: 74404052100; Manufacturer: Wurth Elektronik; Inductance: 10 µH; ComponentLink1Description: Manufacturer; ComponentLink1URL: http://www.we-online.de; Created by: Baojun Chen; Created Date: Aug. 2015; ComponentLink2Description: Datasheet; ComponentLink2URL: http://katalog.we-online.de/pbs/datasheet/74404052100.pdf
footprint WE-LQS 5020 (SMD Power Inductor, 2-Leads, Body 5.0x5.0mm)
pins: 1, 2

## WE-LQS 5020, 74404052101
designator L?, comment 100 µH
WE-LQS SMD Power Inductor, L=100 µH; partNo: 74404052101; Manufacturer: Wurth Elektronik; Inductance: 100 µH; ComponentLink1Description: Manufacturer; ComponentLink1URL: http://www.we-online.de; Created by: Baojun Chen; Created Date: Aug. 2015; ComponentLink2Description: Datasheet; ComponentLink2URL: http://katalog.we-online.de/pbs/datasheet/74404052101.pdf
footprint WE-LQS 5020 (SMD Power Inductor, 2-Leads, Body 5.0x5.0mm)
pins: 1, 2

## WE-LQS 5020, 74404052220
designator L?, comment 22 µH
WE-LQS SMD Power Inductor, L=22 µH; partNo: 74404052220; Manufacturer: Wurth Elektronik; Inductance: 22 µH; ComponentLink1Description: Manufacturer; ComponentLink1URL: http://www.we-online.de; Created by: Baojun Chen; Created Date: Aug. 2015; ComponentLink2Description: Datasheet; ComponentLink2URL: http://katalog.we-online.de/pbs/datasheet/74404052220.pdf
footprint WE-LQS 5020 (SMD Power Inductor, 2-Leads, Body 5.0x5.0mm)
pins: 1, 2

## WE-LQS 5020, 74404052330
designator L?, comment 33 µH
WE-LQS SMD Power Inductor, L=33 µH; partNo: 74404052330; Manufacturer: Wurth Elektronik; Inductance: 33 µH; ComponentLink1Description: Manufacturer; ComponentLink1URL: http://www.we-online.de; Created by: Baojun Chen; Created Date: Aug. 2015; ComponentLink2Description: Datasheet; ComponentLink2URL: http://katalog.we-online.de/pbs/datasheet/74404052330.pdf
footprint WE-LQS 5020 (SMD Power Inductor, 2-Leads, Body 5.0x5.0mm)
pins: 1, 2

## WE-LQS 5020, 74404052470
designator L?, comment 47 µH
WE-LQS SMD Power Inductor, L=47 µH; partNo: 74404052470; Manufacturer: Wurth Elektronik; Inductance: 47 µH; ComponentLink1Description: Manufacturer; ComponentLink1URL: http://www.we-online.de; Created by: Baojun Chen; Created Date: Aug. 2015; ComponentLink2Description: Datasheet; ComponentLink2URL: http://katalog.we-online.de/pbs/datasheet/74404052470.pdf
footprint WE-LQS 5020 (SMD Power Inductor, 2-Leads, Body 5.0x5.0mm)
pins: 1, 2

## WE-LQS 5020, 74404052680
designator L?, comment 68 µH
WE-LQS SMD Power Inductor, L=68 µH; partNo: 74404052680; Manufacturer: Wurth Elektronik; Inductance: 68 µH; ComponentLink1Description: Manufacturer; ComponentLink1URL: http://www.we-online.de; Created by: Baojun Chen; Created Date: Aug. 2015; ComponentLink2Description: Datasheet; ComponentLink2URL: http://katalog.we-online.de/pbs/datasheet/74404052680.pdf
footprint WE-LQS 5020 (SMD Power Inductor, 2-Leads, Body 5.0x5.0mm)
pins: 1, 2

## WE-LQS 5020, 744040520047
designator L?, comment 0.47 µH
WE-LQS SMD Power Inductor, L=0.47 µH; partNo: 744040520047; Manufacturer: Wurth Elektronik; Inductance: 0.47 µH; ComponentLink1Description: Manufacturer; ComponentLink1URL: http://www.we-online.de; Created by: Baojun Chen; Created Date: Aug. 2015; ComponentLink2Description: Datasheet; ComponentLink2URL: http://katalog.we-online.de/pbs/datasheet/744040520047.pdf
footprint WE-LQS 5020 (SMD Power Inductor, 2-Leads, Body 5.0x5.0mm)
pins: 1, 2


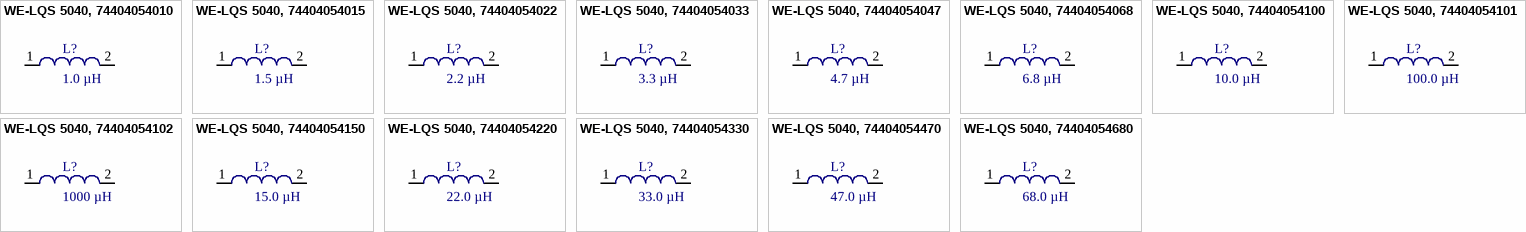
[diagram p5: symbols WE-LQS 5040, 74404054010 to WE-LQS 5040, 74404054680]

## WE-LQS 5040, 74404054010
designator L?, comment 1.0 µH
WE-LQS SMD Power Inductor, L=1.0 µH; partNo: 74404054010; Manufacturer: Wurth Elektronik; Inductance: 1.0 µH; ComponentLink1Description: Manufacturer; ComponentLink1URL: http://www.we-online.de; Created by: Karrer Zheng; Created Date: May 2014; ComponentLink2Description: Datasheet; ComponentLink2URL: http://katalog.we-online.de/pbs/datasheet/74404054010.pdf
footprint WE-LQS 5040 (SMD Power Inductor, 2-Leads, Body 5.0x5.0mm)
pins: 1, 2

## WE-LQS 5040, 74404054015
designator L?, comment 1.5 µH
WE-LQS SMD Power Inductor, L=1.5 µH; partNo: 74404054015; Manufacturer: Wurth Elektronik; Inductance: 1.5 µH; ComponentLink1Description: Manufacturer; ComponentLink1URL: http://www.we-online.de; Created by: Karrer Zheng; Created Date: May 2014; ComponentLink2Description: Datasheet; ComponentLink2URL: http://katalog.we-online.de/pbs/datasheet/74404054015.pdf
footprint WE-LQS 5040 (SMD Power Inductor, 2-Leads, Body 5.0x5.0mm)
pins: 1, 2

## WE-LQS 5040, 74404054022
designator L?, comment 2.2 µH
WE-LQS SMD Power Inductor, L=2.2 µH; partNo: 744040540022; Manufacturer: Wurth Elektronik; Inductance: 2.2 µH; ComponentLink1Description: Manufacturer; ComponentLink1URL: http://www.we-online.de; Created by: Karrer Zheng; Created Date: May 2014; ComponentLink2Description: Datasheet; ComponentLink2URL: http://katalog.we-online.de/pbs/datasheet/74404054022.pdf
footprint WE-LQS 5040 (SMD Power Inductor, 2-Leads, Body 5.0x5.0mm)
pins: 1, 2

## WE-LQS 5040, 74404054033
designator L?, comment 3.3 µH
WE-LQS SMD Power Inductor, L=3.3  µH; partNo: 74404054033; Manufacturer: Wurth Elektronik; Inductance: 3.3 µH; ComponentLink1Description: Manufacturer; ComponentLink1URL: http://www.we-online.de; Created by: Karrer Zheng; Created Date: May 2014; ComponentLink2Description: Datasheet; ComponentLink2URL: http://katalog.we-online.de/pbs/datasheet/74404054033.pdf
footprint WE-LQS 5040 (SMD Power Inductor, 2-Leads, Body 5.0x5.0mm)
pins: 1, 2

## WE-LQS 5040, 74404054047
designator L?, comment 4.7 µH
WE-LQS SMD Power Inductor, L=4.7 µH; partNo: 74404054047; Manufacturer: Wurth Elektronik; Inductance: 4.7 µH; ComponentLink1Description: Manufacturer; ComponentLink1URL: http://www.we-online.de; Created by: Karrer Zheng; Created Date: May 2014; ComponentLink2Description: Datasheet; ComponentLink2URL: http://katalog.we-online.de/pbs/datasheet/74404054047.pdf
footprint WE-LQS 5040 (SMD Power Inductor, 2-Leads, Body 5.0x5.0mm)
pins: 1, 2

## WE-LQS 5040, 74404054068
designator L?, comment 6.8 µH
WE-LQS SMD Power Inductor, L=6.8 µH; partNo: 74404054068; Manufacturer: Wurth Elektronik; Inductance: 6.8 µH; ComponentLink1Description: Manufacturer; ComponentLink1URL: http://www.we-online.de; Created by: Karrer Zheng; Created Date: May 2014; ComponentLink2Description: Datasheet; ComponentLink2URL: http://katalog.we-online.de/pbs/datasheet/74404054068.pdf
footprint WE-LQS 5040 (SMD Power Inductor, 2-Leads, Body 5.0x5.0mm)
pins: 1, 2

## WE-LQS 5040, 74404054100
designator L?, comment 10.0 µH
WE-LQS SMD Power Inductor, L=10.0 µH; partNo: 74404054100; Manufacturer: Wurth Elektronik; Inductance: 10.0 µH; ComponentLink1Description: Manufacturer; ComponentLink1URL: http://www.we-online.de; Created by: Karrer Zheng; Created Date: May 2014; ComponentLink2Description: Datasheet; ComponentLink2URL: http://katalog.we-online.de/pbs/datasheet/74404054100.pdf
footprint WE-LQS 5040 (SMD Power Inductor, 2-Leads, Body 5.0x5.0mm)
pins: 1, 2

## WE-LQS 5040, 74404054101
designator L?, comment 100.0 µH
WE-LQS SMD Power Inductor, L=100.0 µH; partNo: 74404054101; Manufacturer: Wurth Elektronik; Inductance: 100.0 µH; ComponentLink1Description: Manufacturer; ComponentLink1URL: http://www.we-online.de; Created by: Karrer Zheng; Created Date: May 2014; ComponentLink2Description: Datasheet; ComponentLink2URL: http://katalog.we-online.de/pbs/datasheet/74404054101.pdf
footprint WE-LQS 5040 (SMD Power Inductor, 2-Leads, Body 5.0x5.0mm)
pins: 1, 2

## WE-LQS 5040, 74404054102
designator L?, comment 1000 µH
WE-LQS SMD Power Inductor, L=1000  µH; partNo: 74404054102; Manufacturer: Wurth Elektronik; Inductance: 1000 µH; ComponentLink1Description: Manufacturer; ComponentLink1URL: http://www.we-online.de; Created by: Baojun Chen; Created Date: Aug. 2015; ComponentLink2Description: Datasheet; ComponentLink2URL: http://katalog.we-online.de/pbs/datasheet/74404054102.pdf
footprint WE-LQS 5040 (SMD Power Inductor, 2-Leads, Body 5.0x5.0mm)
pins: 1, 2

## WE-LQS 5040, 74404054150
designator L?, comment 15.0 µH
WE-LQS SMD Power Inductor, L=15.0 µH; partNo: 74404054150; Manufacturer: Wurth Elektronik; Inductance: 15.0 µH; ComponentLink1Description: Manufacturer; ComponentLink1URL: http://www.we-online.de; Created by: Karrer Zheng; Created Date: May 2014; ComponentLink2Description: Datasheet; ComponentLink2URL: http://katalog.we-online.de/pbs/datasheet/74404054150.pdf
footprint WE-LQS 5040 (SMD Power Inductor, 2-Leads, Body 5.0x5.0mm)
pins: 1, 2

## WE-LQS 5040, 74404054220
designator L?, comment 22.0 µH
WE-LQS SMD Power Inductor, L=22.0 µH; partNo: 74404054220; Manufacturer: Wurth Elektronik; Inductance: 22.0 µH; ComponentLink1Description: Manufacturer; ComponentLink1URL: http://www.we-online.de; Created by: Karrer Zheng; Created Date: May 2014; ComponentLink2Description: Datasheet; ComponentLink2URL: http://katalog.we-online.de/pbs/datasheet/74404054220.pdf
footprint WE-LQS 5040 (SMD Power Inductor, 2-Leads, Body 5.0x5.0mm)
pins: 1, 2

## WE-LQS 5040, 74404054330
designator L?, comment 33.0 µH
WE-LQS SMD Power Inductor, L=33.0 µH; partNo: 74404054330; Manufacturer: Wurth Elektronik; Inductance: 33.0 µH; ComponentLink1Description: Manufacturer; ComponentLink1URL: http://www.we-online.de; Created by: Karrer Zheng; Created Date: May 2014; ComponentLink2Description: Datasheet; ComponentLink2URL: http://katalog.we-online.de/pbs/datasheet/74404054330.pdf
footprint WE-LQS 5040 (SMD Power Inductor, 2-Leads, Body 5.0x5.0mm)
pins: 1, 2

## WE-LQS 5040, 74404054470
designator L?, comment 47.0 µH
WE-LQS SMD Power Inductor, L=47.0 µH; partNo: 74404054470; Manufacturer: Wurth Elektronik; Inductance: 47.0 µH; ComponentLink1Description: Manufacturer; ComponentLink1URL: http://www.we-online.de; Created by: Karrer Zheng; Created Date: May 2014; ComponentLink2Description: Datasheet; ComponentLink2URL: http://katalog.we-online.de/pbs/datasheet/74404054470.pdf
footprint WE-LQS 5040 (SMD Power Inductor, 2-Leads, Body 5.0x5.0mm)
pins: 1, 2

## WE-LQS 5040, 74404054680
designator L?, comment 68.0 µH
WE-LQS SMD Power Inductor, L=68.0  µH; partNo: 74404054680; Manufacturer: Wurth Elektronik; Inductance: 68.0 µH; ComponentLink1Description: Manufacturer; ComponentLink1URL: http://www.we-online.de; Created by: Karrer Zheng; Created Date: May 2014; ComponentLink2Description: Datasheet; ComponentLink2URL: http://katalog.we-online.de/pbs/datasheet/74404054680.pdf
footprint WE-LQS 5040 (SMD Power Inductor, 2-Leads, Body 5.0x5.0mm)
pins: 1, 2


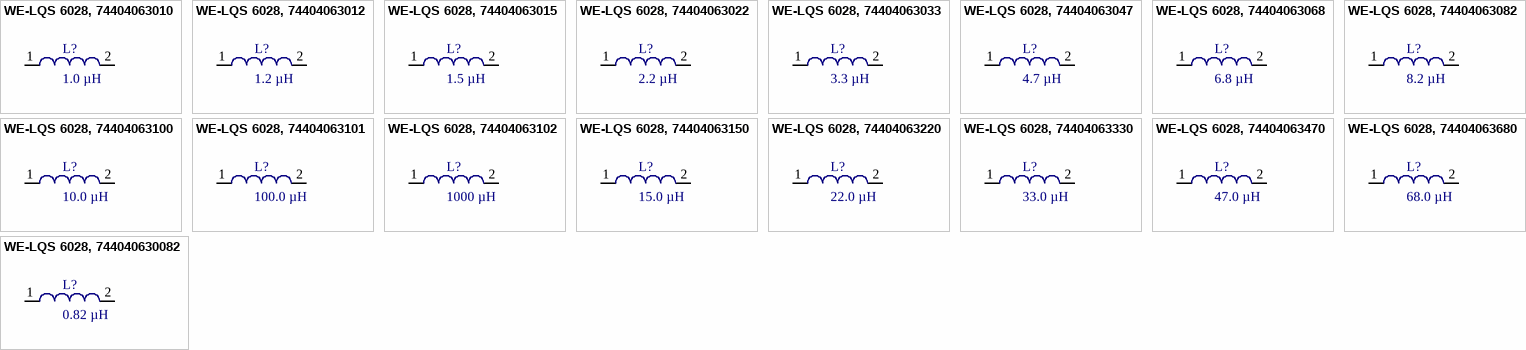
[diagram p6: symbols WE-LQS 6028, 74404063010 to WE-LQS 6028, 744040630082]

## WE-LQS 6028, 74404063010
designator L?, comment 1.0 µH
WE-LQS SMD Power Inductor, L=1.0 µH; partNo: 74404063010; Manufacturer: Wurth Elektronik; Inductance: 1.0 µH; ComponentLink1Description: Manufacturer; ComponentLink1URL: http://www.we-online.de; Created by: Karrer Zheng; Created Date: May 2014; ComponentLink2Description: Datasheet; ComponentLink2URL: http://katalog.we-online.de/pbs/datasheet/74404063010.pdf
footprint WE-LQS 6028 (SMD Power Inductor, 2-Leads, Body 6.0x6.0mm)
pins: 1, 2

## WE-LQS 6028, 74404063012
designator L?, comment 1.2 µH
WE-LQS SMD Power Inductor, L=1.2 µH; partNo: 74404063012; Manufacturer: Wurth Elektronik; Inductance: 1.2 µH; ComponentLink1Description: Manufacturer; ComponentLink1URL: http://www.we-online.de; Created by: Baojun Chen; Created Date: Aug. 2015; ComponentLink2Description: Datasheet; ComponentLink2URL: http://katalog.we-online.de/pbs/datasheet/74404063012.pdf
footprint WE-LQS 6028 (SMD Power Inductor, 2-Leads, Body 6.0x6.0mm)
pins: 1, 2

## WE-LQS 6028, 74404063015
designator L?, comment 1.5 µH
WE-LQS SMD Power Inductor, L=1.5  µH; partNo: 74404063015; Manufacturer: Wurth Elektronik; Inductance: 1.5 µH; ComponentLink1Description: Manufacturer; ComponentLink1URL: http://www.we-online.de; Created by: Karrer Zheng; Created Date: May 2014; ComponentLink2Description: Datasheet; ComponentLink2URL: http://katalog.we-online.de/pbs/datasheet/74404063015.pdf
footprint WE-LQS 6028 (SMD Power Inductor, 2-Leads, Body 6.0x6.0mm)
pins: 1, 2

## WE-LQS 6028, 74404063022
designator L?, comment 2.2 µH
WE-LQS SMD Power Inductor, L=2.2 µH; partNo: 744040630022; Manufacturer: Wurth Elektronik; Inductance: 2.2 µH; ComponentLink1Description: Manufacturer; ComponentLink1URL: http://www.we-online.de; Created by: Karrer Zheng; Created Date: May 2014; ComponentLink2Description: Datasheet; ComponentLink2URL: http://katalog.we-online.de/pbs/datasheet/74404063022.pdf
footprint WE-LQS 6028 (SMD Power Inductor, 2-Leads, Body 6.0x6.0mm)
pins: 1, 2

## WE-LQS 6028, 74404063033
designator L?, comment 3.3 µH
WE-LQS SMD Power Inductor, L=3.3 µH; partNo: 74404063033; Manufacturer: Wurth Elektronik; Inductance: 3.3 µH; ComponentLink1Description: Manufacturer; ComponentLink1URL: http://www.we-online.de; Created by: Karrer Zheng; Created Date: May 2014; ComponentLink2Description: Datasheet; ComponentLink2URL: http://katalog.we-online.de/pbs/datasheet/74404063033.pdf
footprint WE-LQS 6028 (SMD Power Inductor, 2-Leads, Body 6.0x6.0mm)
pins: 1, 2

## WE-LQS 6028, 74404063047
designator L?, comment 4.7 µH
WE-LQS SMD Power Inductor, L=4.7 µH; partNo: 74404063047; Manufacturer: Wurth Elektronik; Inductance: 4.7 µH; ComponentLink1Description: Manufacturer; ComponentLink1URL: http://www.we-online.de; Created by: Karrer Zheng; Created Date: May 2014; ComponentLink2Description: Datasheet; ComponentLink2URL: http://katalog.we-online.de/pbs/datasheet/74404063047.pdf
footprint WE-LQS 6028 (SMD Power Inductor, 2-Leads, Body 6.0x6.0mm)
pins: 1, 2

## WE-LQS 6028, 74404063068
designator L?, comment 6.8 µH
WE-LQS SMD Power Inductor, L=6.8 µH; partNo: 74404063068; Manufacturer: Wurth Elektronik; Inductance: 6.8 µH; ComponentLink1Description: Manufacturer; ComponentLink1URL: http://www.we-online.de; Created by: Karrer Zheng; Created Date: May 2014; ComponentLink2Description: Datasheet; ComponentLink2URL: http://katalog.we-online.de/pbs/datasheet/74404063068.pdf
footprint WE-LQS 6028 (SMD Power Inductor, 2-Leads, Body 6.0x6.0mm)
pins: 1, 2

## WE-LQS 6028, 74404063082
designator L?, comment 8.2 µH
WE-LQS SMD Power Inductor, L=8.2 µH; partNo: 74404063082; Manufacturer: Wurth Elektronik; Inductance: 8.2 µH; ComponentLink1Description: Manufacturer; ComponentLink1URL: http://www.we-online.de; Created by: Karrer Zheng; Created Date: May 2014; ComponentLink2Description: Datasheet; ComponentLink2URL: http://katalog.we-online.de/pbs/datasheet/74404063082.pdf
footprint WE-LQS 6028 (SMD Power Inductor, 2-Leads, Body 6.0x6.0mm)
pins: 1, 2

## WE-LQS 6028, 74404063100
designator L?, comment 10.0 µH
WE-LQS SMD Power Inductor, L=10.0 µH; partNo: 74404063100; Manufacturer: Wurth Elektronik; Inductance: 10.0 µH; ComponentLink1Description: Manufacturer; ComponentLink1URL: http://www.we-online.de; Created by: Karrer Zheng; Created Date: May 2014; ComponentLink2Description: Datasheet; ComponentLink2URL: http://katalog.we-online.de/pbs/datasheet/74404063100.pdf
footprint WE-LQS 6028 (SMD Power Inductor, 2-Leads, Body 6.0x6.0mm)
pins: 1, 2

## WE-LQS 6028, 74404063101
designator L?, comment 100.0 µH
WE-LQS SMD Power Inductor, L=100.0 µH; partNo: 74404063101; Manufacturer: Wurth Elektronik; Inductance: 100.0 µH; ComponentLink1Description: Manufacturer; ComponentLink1URL: http://www.we-online.de; Created by: Karrer Zheng; Created Date: May 2014; ComponentLink2Description: Datasheet; ComponentLink2URL: http://katalog.we-online.de/pbs/datasheet/74404063101.pdf
footprint WE-LQS 6028 (SMD Power Inductor, 2-Leads, Body 6.0x6.0mm)
pins: 1, 2

## WE-LQS 6028, 74404063102
designator L?, comment 1000 µH
WE-LQS SMD Power Inductor, L=1000 µH; partNo: 74404063102; Manufacturer: Wurth Elektronik; Inductance: 1000 µH; ComponentLink1Description: Manufacturer; ComponentLink1URL: http://www.we-online.de; Created by: Baojun Chen; Created Date: Aug. 2015; ComponentLink2Description: Datasheet; ComponentLink2URL: http://katalog.we-online.de/pbs/datasheet/74404063102.pdf
footprint WE-LQS 6028 (SMD Power Inductor, 2-Leads, Body 6.0x6.0mm)
pins: 1, 2

## WE-LQS 6028, 74404063150
designator L?, comment 15.0 µH
WE-LQS SMD Power Inductor, L=15.0 µH; partNo: 74404063150; Manufacturer: Wurth Elektronik; Inductance: 15.0 µH; ComponentLink1Description: Manufacturer; ComponentLink1URL: http://www.we-online.de; Created by: Karrer Zheng; Created Date: May 2014; ComponentLink2Description: Datasheet; ComponentLink2URL: http://katalog.we-online.de/pbs/datasheet/74404063150.pdf
footprint WE-LQS 6028 (SMD Power Inductor, 2-Leads, Body 6.0x6.0mm)
pins: 1, 2

## WE-LQS 6028, 74404063220
designator L?, comment 22.0 µH
WE-LQS SMD Power Inductor, L=22.0 µH; partNo: 74404063220; Manufacturer: Wurth Elektronik; Inductance: 22.0 µH; ComponentLink1Description: Manufacturer; ComponentLink1URL: http://www.we-online.de; Created by: Karrer Zheng; Created Date: May 2014; ComponentLink2Description: Datasheet; ComponentLink2URL: http://katalog.we-online.de/pbs/datasheet/74404063220.pdf
footprint WE-LQS 6028 (SMD Power Inductor, 2-Leads, Body 6.0x6.0mm)
pins: 1, 2

## WE-LQS 6028, 74404063330
designator L?, comment 33.0 µH
WE-LQS SMD Power Inductor, L=33.0 µH; partNo: 74404063330; Manufacturer: Wurth Elektronik; Inductance: 33.0 µH; ComponentLink1Description: Manufacturer; ComponentLink1URL: http://www.we-online.de; Created by: Karrer Zheng; Created Date: May 2014; ComponentLink2Description: Datasheet; ComponentLink2URL: http://katalog.we-online.de/pbs/datasheet/74404063330.pdf
footprint WE-LQS 6028 (SMD Power Inductor, 2-Leads, Body 6.0x6.0mm)
pins: 1, 2

## WE-LQS 6028, 74404063470
designator L?, comment 47.0 µH
WE-LQS SMD Power Inductor, L=47.0 µH; partNo: 74404063470; Manufacturer: Wurth Elektronik; Inductance: 47.0 µH; ComponentLink1Description: Manufacturer; ComponentLink1URL: http://www.we-online.de; Created by: Karrer Zheng; Created Date: May 2014; ComponentLink2Description: Datasheet; ComponentLink2URL: http://katalog.we-online.de/pbs/datasheet/74404063470.pdf
footprint WE-LQS 6028 (SMD Power Inductor, 2-Leads, Body 6.0x6.0mm)
pins: 1, 2